# Altium schematic symbol library Schlib1.SchLib: 1 symbol
Pins are listed as number, name and electrical type; pins without a type are passive.

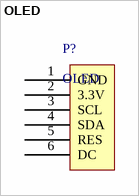
[diagram p0: symbol OLED]

## OLED
designator P?
pins: 1 GND, 2 3.3V, 3 SCL, 4 SDA, 5 RES, 6 DC